# Altium schematic symbol library SYNCBOX_V3I1.SCHLIB: 130 symbols (part 2 of 4)
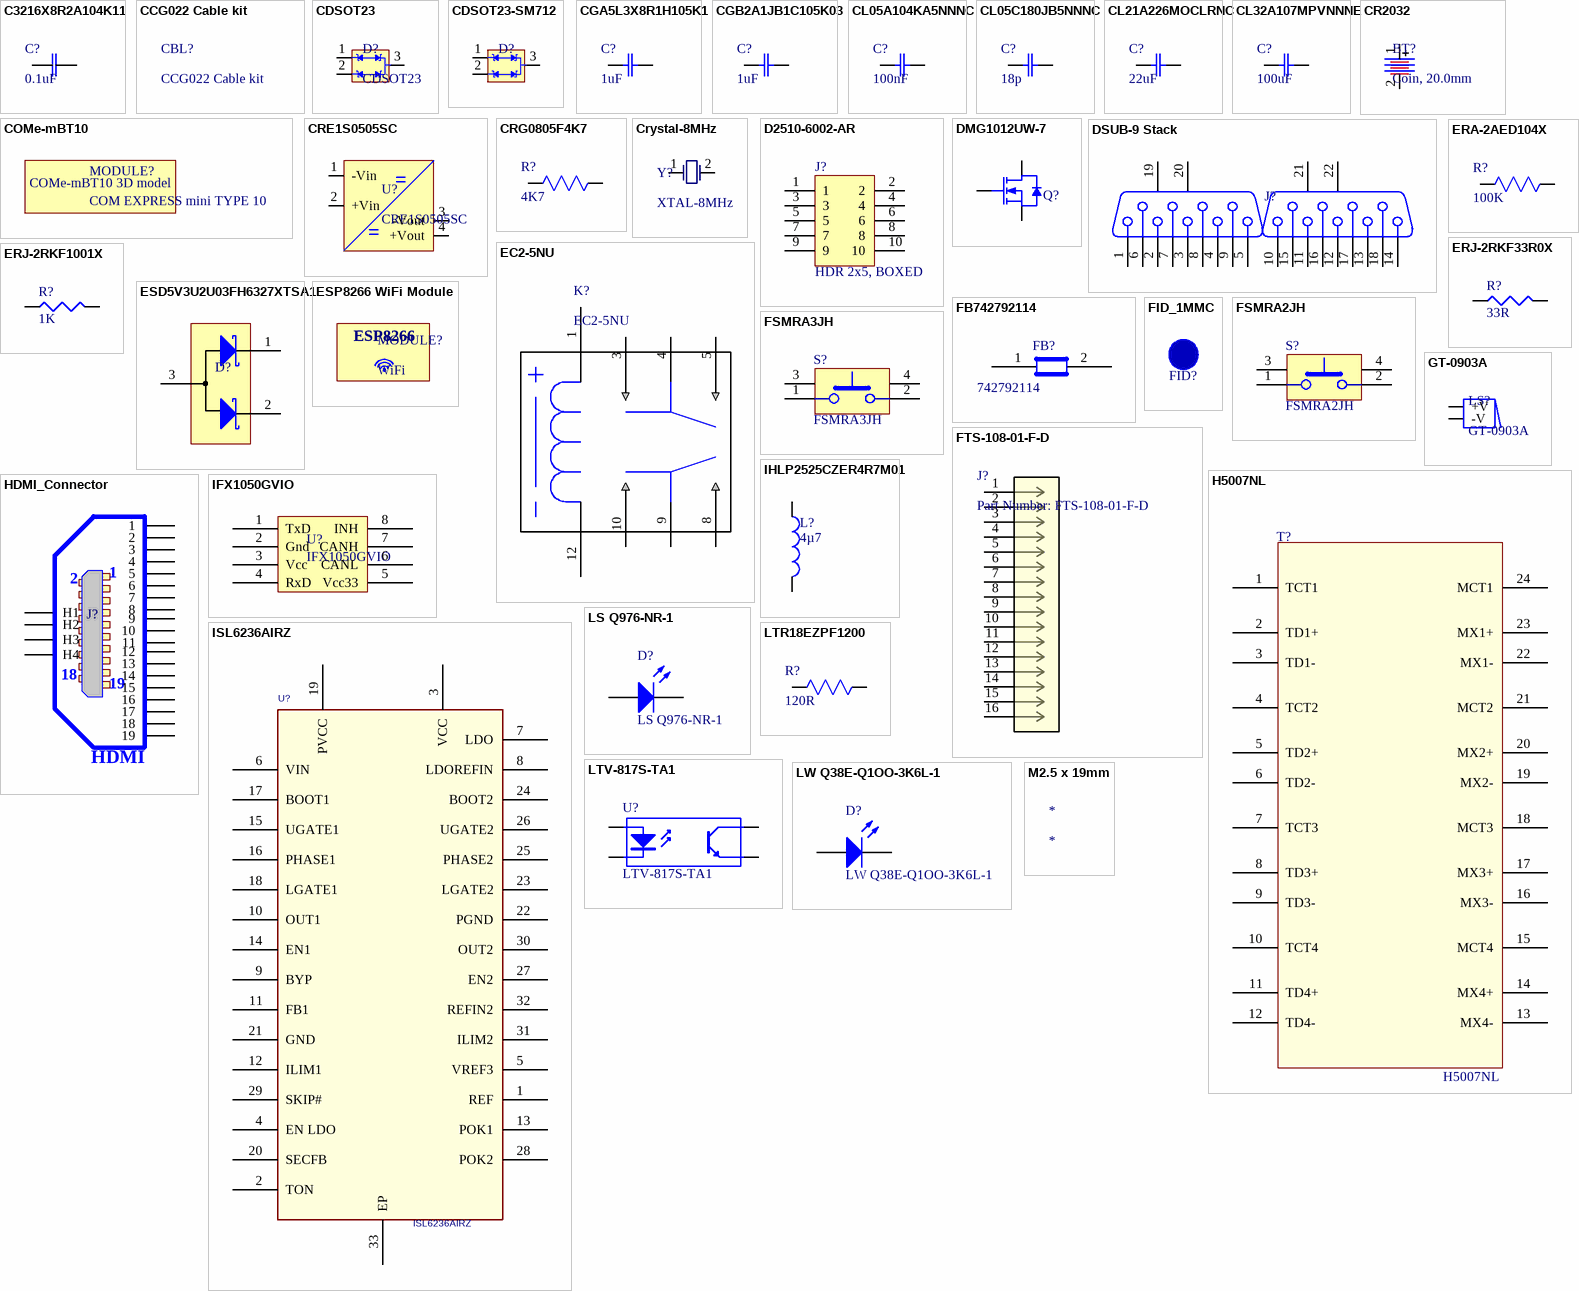
[diagram p4: symbols C3216X8R2A104K11 to M2.5 x 19mm]

## CDSOT23-SM712
designator D?, comment TVS  (value not drawn)
BOURNS - CDSOT23-SM712 - Transient Voltage Suppressor, TVS, CDSOT23 Series, Unidirectional, 12 V, SOT-23, 3, 13.3 V; Product Training Modules: ESD Protection Products; Catalog Drawings: CDSOT23-SM712 Schematic; Type: Zener; Bidirectional Channels: 2; Voltage - Reverse Standoff (Typ): 7V (Max), 12V (Max); Voltage - Breakdown (Min): 7.5V, 13.3V; Voltage - Clamping (Max) @ Ipp: 14V, 26V; Current - Peak Pulse (10/1000µs): 17A (8/20µs); Power - Peak Pulse: 400W; Power Line Protection: No; Capacitance @ Frequency: 75pF @ 1MHz; Kits: PN-DESIGNKIT-22-ND  - KIT ESD/EFT SURGE PROTECTION; For Use With: EVAL-CN0313-SDPZ-ND  - EVAL EMC RS-485 CERTIFIED; Related Products: ADM3485EARZ-REEL7TR-ND  - IC TXRX RS-485 HS 3.3V 8SOIC ADM3485EARZ-REEL7CT-ND  - IC TXRX RS-485 HS 3.3V 8SOIC ADM3485EARZ-REEL7DKR-ND  - IC TXRX RS-485 HS 3.3V 8SOIC ADM3485EARZ-ND  - IC TX/RX RS-485 HS 3.3V 8-SOIC ADM3485EAR-ND  - IC TX/RX RS-485 HS 3.3V 8-SOIC 296-38503-5-ND  - IC TXRX RS485 3.3V ESD 14SOIC 296-38501-5-ND  - IC RS485 TXRX 3.3 ESD 8SOIC 296-38522-5-ND  - IC TXRX RS485 3.3V 14SOIC 296-38502-5-ND  - IC TXRX RS485 3.3V ESD 14SOIC ADM3485EARZ-REELTR-ND  - IC TXRX RS-485 3.3V 8SOIC ADM3485EARZ-REELCT-ND  - IC TXRX RS-485 3.3V 8SOIC ADM3485EARZ-REELDKR-ND  - IC TXRX RS-485 3.3V 8SOIC 296-40517-2-ND  - IC TXRX RS485 3.3V 14SOIC 296-40517-1-ND  - IC TXRX RS485 3.3V 14SOIC 296-40517-6-ND  - IC TXRX RS485 3.3V 14SOIC 296-40519-2-ND  - IC RS485 TXRX 3.3 ESD 8SOIC 296-40519-1-ND  - IC RS485 TXRX 3.3 ESD 8SOIC 296-40519-6-ND  - IC RS485 TXRX 3.3 ESD 8SOIC 296-40524-2-ND  - IC TXRX RS485 3.3V ESD 8SOIC 296-40524-1-ND  - IC TXRX RS485 3.3V ESD 8SOIC 296-40524-6-ND  - IC TXRX RS485 3.3V ESD 8SOIC 296-40522-2-ND  - IC TXRX RS485 3.3V ESD 14SOIC 296-40522-1-ND  - IC TXRX RS485 3.3V ESD 14SOIC 296-40522-6-ND  - IC TXRX RS485 3.3V ESD 14SOIC 296-40529-2-ND  - IC RS485 TXRX 3.3 ESD 8SOIC 296-40529-1-ND  - IC RS485 TXRX 3.3 ESD 8SOIC 296-40529-6-ND  - IC RS485 TXRX 3.3 ESD 8SOIC 296-40527-2-ND  - IC TXRX RS485 FULL DUPLEX 14SOIC 296-40527-1-ND  - IC TXRX RS485 FULL DUPLEX 14SOIC 296-40527-6-ND  - IC TXRX RS485 FULL DUPLEX 14SOIC 296-40516-2-ND  - IC TXRX RS485 3.3V 10VSSOP 296-40516-1-ND  - IC TXRX RS485 3.3V 10VSSOP 296-40516-6-ND  - IC TXRX RS485 3.3V 10VSSOP 296-40518-2-ND  - IC RS485 TXRX 3.3 ESD 8VSSOP 296-40518-1-ND  - IC RS485 TXRX 3.3 ESD 8VSSOP 296-40518-6-ND  - IC RS485 TXRX 3.3 ESD 8VSSOP 296-40521-2-ND  - IC TXRX RS485 3.3V ESD 10VSSOP 296-40521-1-ND  - IC TXRX RS485 3.3V ESD 10VSSOP 296-40521-6-ND  - IC TXRX RS485 3.3V ESD 10VSSOP 296-40523-2-ND  - IC TXRX RS485 3.3V ESD 8VSSOP 296-40523-1-ND  - IC TXRX RS485 3.3V ESD 8VSSOP 296-40523-6-ND  - IC TXRX RS485 3.3V ESD 8VSSOP 296-40528-2-ND  - IC RS485 TXRX 3.3 ESD 8VSSOP 296-40528-1-ND  - IC RS485 TXRX 3.3 ESD 8VSSOP 296-40528-6-ND  - IC RS485 TXRX 3.3 ESD 8VSSOP 296-40526-2-ND  - IC TXRX RS485 FULL DUPLEX 10VSSO 296-40526-1-ND  - IC TXRX RS485 FULL DUPLEX 10VSSO 296-40526-6-ND  - IC TXRX RS485 FULL DUPLEX 10VSSO SN65HVD74DGK-ND  - IC TXRX RS485 3.3V ESD 8VSSOP; Other Names: CDSOT23-SM712CT; Manufacturer 1: Bourns; Manufacturer Part Number 1: CDSOT23-SM712; Stock 1: 30000; Standard Package: 1; Family: TVS - Diodes; Series: -; Packaging: Cut Tape (CT); Unidirectional Channels: -; Applications: General Purpose; Operating Temperature: -55°C ~ 150°C (TJ); Mounting Type: Surface Mount; Package / Case: TO-236-3, SC-59, SOT-23-3; Supplier Device Package: SOT-23-3; Online Catalog: CDSOT23 Series; ComponentLink1URL: http://www.farnell.com/datasheets/2645121.pdf?src-supplier=Farnell; ComponentLink1Description: http://www.farnell.com/datasheets/2645121.pdf?src-supplier=Farnell; ComponentLink2URL: http://www.bourns.com/docs/Product-Datasheets/CDSOT23-SM712.pdf?src-supplier=Mouser; ComponentLink2Description: http://www.bourns.com/docs/Product-Datasheets/CDSOT23-SM712.pdf?src-supplier=Mouser; ComponentLink3URL: http://www.bourns.com/docs/Product-Datasheets/CDSOT23-SM712.pdf?src-supplier=Avnet; ComponentLink3Description: http://www.bourns.com/docs/Product-Datasheets/CDSOT23-SM712.pdf?src-supplier=Avnet; ComponentLink4URL: http://www.bourns.com/docs/Product-Datasheets/CDSOT23-SM712.pdf?src-supplier=Verical; ComponentLink4Description: http://www.bourns.com/docs/Product-Datasheets/CDSOT23-SM712.pdf?src-supplier=Verical; ComponentLink5URL: https://www.bourns.com/docs/technical-documents/technical-library/circuit-protection/design-notes/bourns_rs485_evalboard4_design_note.pdf?src-supplier=Digi-Key; ComponentLink5Description: https://www.bourns.com/docs/technical-documents/technical-library/circuit-protection/design-notes/bourns_rs485_evalboard4_design_note.pdf?src-supplier=Digi-Key; ComponentLink6URL: http://www.farnell.com/datasheets/2645121.pdf?src-supplier=Element14; ComponentLink6Description: http://www.farnell.com/datasheets/2645121.pdf?src-supplier=Element14; ComponentLink7URL: http://www.bourns.com/docs/Product-Datasheets/CDSOT23-SM712.pdf?src-supplier=Avnet+Europe; ComponentLink7Description: http://www.bourns.com/docs/Product-Datasheets/CDSOT23-SM712.pdf?src-supplier=Avnet+Europe; Supplier 1: RSComponents; Supplier Part Number 1: 1653019; Description 1: BOURNS - CDSOT23-SM712 - Transient Voltage Suppressor, TVS, CDSOT23 Series, Unidirectional, 12 V, SOT-23, 3, 13.3 V; Category: Circuit Protection; .Checked SCH: *; .Checked PCB: *
footprint SOT-23-3 (SOT-23; 3 Leads; Body 3.0 x 2.6 mm, inc. leads (LxW max))
pins: 1, 2, 3

## CGA5L3X8R1H105K1
designator C?, comment 1uF
CAP CER 1UF 50V X8R 1206; Manufacturer_Part_Number: CGA5L3X8R1H105K160AB; Manufacturer 1: TDK Corporation; Vendor: TDK; Built_By: EMA_UL_Team; Type: DEV; C: Copyright (C) 2015 Accelerated Designs. All rights reserved; Tolerance: ±10%; RefDes: RefDes; Value: Value; Manufacturer Part Number 1: CGA5L3X8R1H105K160AB; RoHS: RoHS Compliant; Stock 1: 3285; Pricing 1: 1=0.85, 10=0.628, 100=0.4306, 500=0.34086, 1000=0.28704 (USD); Packaging: Cut Tape (CT); Part Status: Active; Voltage - Rated: 50V; Temperature Coefficient: X8R; Operating Temperature: -55°C ~ 150°C; Features: High Temperature; Ratings: AEC-Q200; Applications: Automotive; Failure Rate: -; Mounting Type: Surface Mount, MLCC; Package / Case: 1206 (3216 Metric); Size / Dimension: 0.126" L x 0.063" W (3.20mm x 1.60mm); Height - Seated (Max): -; Thickness (Max): 0.071" (1.80mm); Lead Spacing: -; Lead Style: -; ComponentLink1URL: https://product.tdk.com/info/en/catalog/datasheets/mlcc_automotive_hightemp_en.pdf; ComponentLink1Description: https://product.tdk.com/info/en/catalog/datasheets/mlcc_automotive_hightemp_en.pdf; Supplier 1: Digi-Key; Supplier Part Number 1: 445-13000-1-ND; Description 1: CAP CER 1UF 50V X8R 1206; Category: Capacitors
footprint CAP_3216
pins: 1, 2

## CGB2A1JB1C105K03
designator C?, comment 1uF
CAP CER 1UF 16V JB 0402; Manufacturer_Part_Number: CGB2A1JB1C105K033BC; Manufacturer 1: TDK Corporation; Vendor: TDK; Built_By: EMA_UL_Team; Type: DEV; C: Copyright (C) 2015 Accelerated Designs. All rights reserved; Tolerance: ±10%; Notification: Current market demand for these product types have resulted in fluctuating and extending lead times. Lead times may differ.; RefDes: RefDes; Value: Value; Manufacturer Part Number 1: CGB2A1JB1C105K033BC; RoHS: RoHS Compliant; Stock 1: 8974; Pricing 1: 1=0.22, 10=0.151, 100=0.0765, 500=0.05232, 1000=0.04629, 2500=0.04428, 5000=0.04025 (USD); Packaging: Cut Tape (CT); Part Status: Active; Voltage - Rated: 16V; Temperature Coefficient: JB; Operating Temperature: -25°C ~ 85°C; Features: Low Profile; Ratings: -; Applications: General Purpose; Failure Rate: -; Mounting Type: Surface Mount, MLCC; Package / Case: 0402 (1005 Metric); Size / Dimension: 0.039" L x 0.020" W (1.00mm x 0.50mm); Height - Seated (Max): -; Thickness (Max): 0.013" (0.33mm); Lead Spacing: -; Lead Style: -; ComponentLink1URL: https://product.tdk.com/info/en/catalog/datasheets/mlcc_commercial_lowprofile_en.pdf; ComponentLink1Description: https://product.tdk.com/info/en/catalog/datasheets/mlcc_commercial_lowprofile_en.pdf; Supplier 1: Digi-Key; Supplier Part Number 1: 445-12011-1-ND; Description 1: CAP CER 1UF 16V JB 0402; Category: Capacitors
footprint C0402
footprint C0402
pins: 1, 2

## CL05A104KA5NNNC
designator C?, comment 100nF
CAP CER 0.1UF 50V X8R 0603; Manufacturer 1: Samsung Electro-Mechanics; Manufacturer Part Number 1: CL05A104KA5NNNC; Tolerance: ±10%; Voltage - Rated: 25V; Temperature Coefficient: X5R; Notification: Current market demand for these product types have resulted in fluctuating and extending lead times. Lead times may differ.; Description 1: CAP CER 0.1UF 25V X5R 0402; RoHS: RoHS Compliant; Stock 1: 100000; Pricing 1: 1=0.1, 10=0.04, 100=0.0176, 500=0.0126, 1000=0.0099, 2500=0.009, 5000=0.00828 (USD); Packaging: Digi-Reel®; Part Status: Active; Operating Temperature: -55°C ~ 85°C; Features: -; Ratings: -; Applications: General Purpose; Mounting Type: Surface Mount, MLCC; Package / Case: 0402 (1005 Metric); Size / Dimension: 0.039" L x 0.020" W (1.00mm x 0.50mm); Height - Seated (Max): -; Thickness (Max): 0.022" (0.55mm); Lead Spacing: -; Lead Style: -; ComponentLink1URL: http://www.samsungsem.com/kr/support/product-search/mlcc/CL05A104KA5NNNC.jsp; ComponentLink1Description: http://www.samsungsem.com/kr/support/product-search/mlcc/CL05A104KA5NNNC.jsp; Supplier 1: Digi-Key; Supplier Part Number 1: 1276-1043-6-ND; Category: Capacitors
footprint C0402
pins: 1, 2

## CL05C180JB5NNNC
designator C?, comment 18p
CAP CER 18PF 50V C0G/NP0 0402; Manufacturer 1: Samsung Electro-Mechanics; Manufacturer Part Number 1: CL05C180JB5NNNC; Tolerance: ±5%; Temperature Coefficient: C0G, NP0; Notification: Current market demand for these product types have resulted in fluctuating and extending lead times. Lead times may differ.; RoHS: RoHS Compliant; Stock 1: 89300; Pricing 1: 1=0.1, 10=0.034, 100=0.0154, 500=0.01114, 1000=0.00888, 2500=0.00814, 5000=0.00753 (USD); Packaging: Cut Tape (CT); Part Status: Active; Voltage - Rated: 50V; Operating Temperature: -55°C ~ 125°C; Features: -; Ratings: -; Applications: General Purpose; Mounting Type: Surface Mount, MLCC; Package / Case: 0402 (1005 Metric); Size / Dimension: 0.039" L x 0.020" W (1.00mm x 0.50mm); Height - Seated (Max): -; Thickness (Max): 0.022" (0.55mm); Lead Spacing: -; Lead Style: -; ComponentLink1URL: http://www.samsungsem.com/kr/support/product-search/mlcc/CL05C180JB5NNNC.jsp; ComponentLink1Description: http://www.samsungsem.com/kr/support/product-search/mlcc/CL05C180JB5NNNC.jsp; Supplier 1: Digi-Key; Supplier Part Number 1: 1276-1140-1-ND; Description 1: CAP CER 18PF 50V C0G/NP0 0402; Category: Capacitors
footprint C0402
footprint C0402
pins: 1, 2

## CL21A226MOCLRNC
designator C?, comment 22uF
CAP CER 22UF 16V X5R 0805; Manufacturer 1: Samsung Electro-Mechanics; Manufacturer Part Number 1: CL21A226MOCLRNC; Tolerance: ±20%; Notification: Current market demand for these product types have resulted in fluctuating and extending lead times. Lead times may differ.; RoHS: RoHS Compliant; Stock 1: 40000; Pricing 1: 1=0.34, 10=0.233, 100=0.132, 500=0.09318, 1000=0.08153 (USD); Packaging: Cut Tape (CT); Part Status: Active; Voltage - Rated: 16V; Temperature Coefficient: X5R; Operating Temperature: -55°C ~ 85°C; Features: Low Profile; Ratings: -; Applications: General Purpose; Mounting Type: Surface Mount, MLCC; Package / Case: 0805 (2012 Metric); Size / Dimension: 0.079" L x 0.049" W (2.00mm x 1.25mm); Height - Seated (Max): -; Thickness (Max): 0.037" (0.95mm); Lead Spacing: -; Lead Style: -; ComponentLink1URL: http://www.samsungsem.com/kr/support/product-search/mlcc/CL21A226MOCLRNC.jsp; ComponentLink1Description: http://www.samsungsem.com/kr/support/product-search/mlcc/CL21A226MOCLRNC.jsp; Supplier 1: Digi-Key; Supplier Part Number 1: 1276-6780-1-ND; Description 1: CAP CER 22UF 16V X5R 0805; Category: Capacitors
footprint C0805
pins: 1, 2

## CL32A107MPVNNNE
designator C?, comment 100uF
CAP CER 100UF 10V X5R 1210; Manufacturer_Part_Number: C1210C107M8PACTU; Manufacturer 1: Samsung Electro-Mechanics; Manufacturer Part Number 1: CL32A107MPVNNNE; Vendor: Kemet; Built_By: EMA_UL_Team; Type: DEV; C: Copyright (C) 2015 Accelerated Designs. All rights reserved; Tolerance: ±20%; Notification: Current market demand for these product types have resulted in fluctuating and extending lead times. Lead times may differ.; RefDes: RefDes; Value: 100uF; RoHS: RoHS Compliant; Stock 1: 10000; Pricing 1: 1=1.23, 10=0.97, 100=0.7277, 500=0.54984 (USD); Packaging: Cut Tape (CT); Part Status: Active; Voltage - Rated: 10V; Temperature Coefficient: X5R; Operating Temperature: -55°C ~ 85°C; Features: -; Ratings: -; Applications: General Purpose; Mounting Type: Surface Mount, MLCC; Package / Case: 1210 (3225 Metric); Size / Dimension: 0.126" L x 0.098" W (3.20mm x 2.50mm); Height - Seated (Max): -; Thickness (Max): 0.110" (2.80mm); Lead Spacing: -; Lead Style: -; ComponentLink1URL: http://www.samsungsem.com/kr/support/product-search/mlcc/CL32A107MPVNNNE.jsp; ComponentLink1Description: http://www.samsungsem.com/kr/support/product-search/mlcc/CL32A107MPVNNNE.jsp; Supplier 1: Digi-Key; Supplier Part Number 1: 1276-3364-1-ND; Description 1: CAP CER 100UF 10V X5R 1210; Category: Capacitors
footprint C1210C
footprint C1210C-L
footprint C1210C-M
pins: 1, 2

## COMe-mBT10
designator MODULE?, comment COM EXPRESS mini TYPE 10
text: COMe-mBT10 3D model

## CR2032
designator BT?, comment Coin, 20.0mm
BATTERY HOLDER COIN 20MM PC PIN; Manufacturer Part Number: BS-7; Product Training Modules: Battery Holders for Wireless Applications; Featured Product: Top and Side Loading Coin Cell Holders Ultra-Low CR2016 Coin Cell Holder Covered 8-AA Battery Pack Cylindrical Battery Contacts; Battery Type, Function: Coin Cell, Holder; Style: Holder (Open); Number of Cells: 1; Battery Series: 2032; Online Catalog: Battery Holders, Clips, Contacts; For Use With: P188-ND / - BATTERY LITHIUM 3V COIN 20MM / P138-ND / - BATTERY LITHIUM 3V COIN 20MM / P189-ND / - BATTERY LITHIUM 3V COIN 20MM / N138-ND / - BATTERY LITHIUM 3V COIN 20MM / N188-ND / - BATTERY LITHIUM 3V COIN 20MM / P186-ND / - BATTERY LITHIUM 3V COIN 20MM / SY189-ND / - BATTERY LITHIUM 3V COIN 20MM / SY138-ND / - BATTERY LITHIUM 3V COIN 20MM / SY188-ND / - BATTERY LITHIUM 3V COIN 20MM / N189-ND / - BATTERY LITHIUM 3V COIN 20MM / P037-ND / - BATTERY LITHIUM 3V COIN 20MM / N037-ND / - BATTERY LITHIUM 3V COIN 20MM / ECR2032BP-ND / - BATTERY LITH 3V COIN 20MM; Other Names: BS7; Supplier 1: Electro Sonic; Supplier Part Number 1: BS7; Manufacturer 2: Memory Protection Devices; Manufacturer Part Number 2: BS-7; Stock 2: 0; RoHS Information: Cert of Compliance; Standard Package: 100; Family: Battery Holders, Clips, Contacts; Battery Cell Size: Coin, 20.0mm; Mounting Type: PCB, Through Hole; Termination Style: PC Pin; Height Above Board: 0.354" (9.00mm); Operating Temperature: -55°C ~ 105°C; ComponentLink1URL: http://www.memoryprotectiondevices.com/datasheets/BS-7-datasheet.pdf?src-supplier=Digi-Key; ComponentLink1Description: http://www.memoryprotectiondevices.com/datasheets/BS-7-datasheet.pdf?src-supplier=Digi-Key; Supplier 2: Perfect Parts; Supplier Part Number 2: BS-7; Description 2: BATTERY HOLDER COIN 20MM PC PIN; Category: Battery Products
footprint BS-7
pins: 1, 2
1 alternate drawing of the same symbol

## CRE1S0505SC
designator U?
DC/DC TH 1W 5-5V SIP SINGLE; Manufacturer 1: Murata Power Solutions Inc.; Voltage - Input (Min): 4.5V; Voltage - Input (Max): 5.5V; Voltage - Output 1: 5V; Current - Output (Max): 200mA; Efficiency: 70%; Manufacturer Part Number 1: CRE1S0505SC; RoHS: RoHS Compliant; Stock 1: 676; Pricing 1: 1=2.69, 5=2.68, 10=2.66, 25=2.63, 50=2.56, 100=2.43, 250=2.28, 500=2.13002, 1000=2.1147 (USD); Packaging: Tube; Part Status: Active; Type: Isolated Module; Voltage - Output 2: -; Voltage - Output 3: -; Applications: ITE (Commercial); Features: -; Operating Temperature: -40°C ~ 85°C; Mounting Type: Through Hole; Package / Case: 4-SIP Module; Size / Dimension: 0.45" L x 0.24" W x 0.30" H (11.5mm x 6.1mm x 7.5mm); Supplier Device Package: -; ComponentLink1URL: https://power.murata.com/data/power/ncl/kdc_cre1.pdf; ComponentLink1Description: https://power.murata.com/data/power/ncl/kdc_cre1.pdf; Supplier 1: Digi-Key; Supplier Part Number 1: 811-3196-ND; Description 1: DC/DC TH 1W 5-5V SIP SINGLE; Category: Power Supplies - Board Mount
footprint CRE1S0505SC
pins: 1 -Vin, 2 +Vin, 3 -Vout, 4 +Vout

## CRG0805F4K7
designator R?, comment 4K7
RES SMD 4.7K OHM 1% 1/8W 0805; Manufacturer_Part_Number: CRG0805F4K7; Manufacturer 1: TE Connectivity Passive Product; Vendor: TE Connectivity; Built_By: EMA_UL_Team; C: Copyright (C) 2015 Accelerated Designs. All rights reserved; Power (Watts): 0.125W, 1/8W; Temperature Coefficient: ±100ppm/°C; RefDes: RefDes; Type: DEV; Value: Value; Manufacturer Part Number 1: CRG0805F4K7; RoHS: RoHS Compliant; Stock 1: 28633; Pricing 1: 1=0.1, 10=0.035, 100=0.0143, 1000=0.00641, 2500=0.00557 (USD); Packaging: Cut Tape (CT); Part Status: Active; Tolerance: ±1%; Composition: Thick Film; Features: -; Operating Temperature: -55°C ~ 125°C; Package / Case: 0805 (2012 Metric); Supplier Device Package: 0805; Size / Dimension: 0.079" L x 0.049" W (2.00mm x 1.25mm); Height - Seated (Max): 0.026" (0.65mm); Failure Rate: -; ComponentLink1URL: http://www.te.com/commerce/DocumentDelivery/DDEController?Action=srchrtrv&DocNm=1773204&DocType=DS&DocLang=English; ComponentLink1Description: http://www.te.com/commerce/DocumentDelivery/DDEController?Action=srchrtrv&DocNm=1773204&DocType=DS&DocLang=English; Supplier 1: Digi-Key; Supplier Part Number 1: A106065CT-ND; Description 1: RES SMD 4.7K OHM 1% 1/8W 0805; Category: Resistors
footprint RES0805_CRG_TYCO
footprint RES0805_CRG_TY01
footprint RES0805_CRG_TY00
pins: 1, 2

## Crystal-8MHz
designator Y?, comment XTAL-8MHz
8MHz ±30ppm Crystal 18pF 80 Ohm -20°C ~ 70°C  Surface Mount HC49/US; Brand: ABRACON; Case Height: 4.2 mm; Case Length: 11.4 mm; Case Width: 4.7 mm; ESR: 80 Ohms; Frequency Stability: 50 PPM; Manufacturer 2: ABRACON; Manufacturer Part Number 2: ABLS-8.000MHZ-B4-T; Stock 2: 7825; Dimensions: 4.7 mm W x 11.4 mm L x 4.2 mm H; Frequency: 8 MHz; Load Capacitance: 18 pF; Package / Case: HC-49/US; Operating Temperature Range: - 20 C to + 70 C; Mounting Style: SMD/SMT; Factory Pack Quantity: 1000; Product Category: Crystals; RoHS: Details; Tolerance: 30 PPM; Termination Style: SMD/SMT; Packaging: Reel; Series: ABLS; Type: Low Profile Microprocessor Crystal; ComponentLink1URL: https://abracon.com/Support/PackageDrawing/Resonators/ABLS-2D.pdf; ComponentLink1Description: https://abracon.com/Support/PackageDrawing/Resonators/ABLS-2D.pdf; ComponentLink2URL: http://www.abracon.com/Support/PackageDrawing/Resonators/ABLS-2D.pdf; ComponentLink2Description: http://www.abracon.com/Support/PackageDrawing/Resonators/ABLS-2D.pdf; Supplier 1: Digi-Key; Supplier Part Number 1: 535-10212-1-ND; Supplier 2: RSComponents; Supplier Part Number 2: 1710238; Description 2: 8MHz ±30ppm Crystal 18pF 80 Ohm -20°C ~ 70°C  Surface Mount HC49/US
footprint HC49/US
pins: 1, 2

## D2510-6002-AR
designator J?, comment HDR 2x5, BOXED
CONN HEADER 10POS VERT 10GOLD; Manufacturer: 3M; Manufacturer Part Number: D2510-6002-AR; Connector Type: Header, Shrouded; Number of Positions: 10; Number of Positions Loaded: All; Pitch: 0.100" (2.54mm); .Creator: MM; Supplier 1: Digi-Key; RoHS: RoHS Compliant; Category: Connectors, Interconnects; Stock 1: 1080; Pricing 1: 1=1.57, 10=1.421, 50=1.276, 100=1.218, 250=1.102, 500=1.015, 1000=0.87, 2500=0.812, 5000=0.7714 (USD); Packaging: Bulk; Contact Type: Male Pin; Number of Rows: 2; Row Spacing: 0.100" (2.54mm); Contact Mating Length: 0.243" (6.17mm); Mounting Type: Through Hole; Termination: Solder; Fastening Type: -; Features: -; Contact Finish: Gold; Contact Finish Thickness: 10µin (0.25µm); Color: Black; ComponentLink1URL: http://multimedia.3m.com/mws/mediawebserver?66666UuZjcFSLXTtm8T_oxMcEVuQEcuZgVs6EVs6E666666--; ComponentLink1Description: http://multimedia.3m.com/mws/mediawebserver?66666UuZjcFSLXTtm8T_oxMcEVuQEcuZgVs6EVs6E666666--; Supplier Part Number 1: MHC10E-ND; .Checked PCB: MM; .Checked SCH: MM
footprint HDR_2X5_2.54MM_BOXED
pins: 1, 2, 3, 4, 5, 6, 7, 8, 9, 10

## DMG1012UW-7
designator Q?  (value not drawn)
MOSFET N-CH 20V 1A SOT323; Manufacturer 1: Diodes Incorporated; Note: Pin 2 is electrically connected to pin 4.; FET Type: N-Channel; Current - Continuous Drain (Id) @ 25°C: 1A (Ta); Drive Voltage (Max Rds On,  Min Rds On): 1.8V, 4.5V; Rds On (Max) @ Id, Vgs: 450 mOhm @ 600mA, 4.5V; Vgs(th) (Max) @ Id: 1V @ 250µA; Vgs (Max): ±6V; Power Dissipation (Max): 290mW (Ta); Published: 8-Jun-2000; LatestRevisionDate: 17-Jul-2002; LatestRevisionNote: Re-released for DXP Platform.; DatasheetVersion: PD-9.814; PackageReference: TO-220AB; Publisher: Altium Limited; Code_JEDEC: TO-220-AB; ComponentLink1Description: Manufacturer Link; ComponentLink1URL: http://www.irf.com/; Digikey P/N: DMG1012UW-7DITR-ND; Supplier 1: Digi-Key; Supplier Part Number 1: DMG1012UW-7DICT-ND; Manufacturer Part Number 1: DMG1012UW-7; RoHS: RoHS Compliant; Description 1: MOSFET N-CH 20V 1A SOT323; Category: Discrete Semiconductor Products; Stock 1: 211076; Pricing 1: 1=0.41, 10=0.37, 100=0.2074, 500=0.1111, 1000=0.07554 (USD); Packaging: Cut Tape (CT); Part Status: Active; Technology: MOSFET (Metal Oxide); FET Feature: -; Operating Temperature: -55°C ~ 150°C (TJ); Mounting Type: Surface Mount; Supplier Device Package: SOT-323; Package / Case: SC-70, SOT-323; ComponentLink2URL: https://www.diodes.com/assets/Datasheets/ds31859.pdf; ComponentLink2Description: https://www.diodes.com/assets/Datasheets/ds31859.pdf
footprint SOT-23-3 (SOT-23; 3 Leads; Body 3.0 x 2.6 mm, inc. leads (LxW max))
footprint SC70-LB3_L (SOT323, 3-Leads, Body 2.0x1.3mm, Pitch 0.65mm, Lead Span 2.1mm, IPC High Density)
footprint SC70-LB3_M (SOT323, 3-Leads, Body 2.0x1.3mm, Pitch 0.65mm, Lead Span 2.1mm, IPC Low Density)
footprint SC70_SOT323
pins: 1 G, 2 S, 3 D

## DSUB-9 Stack
designator J?, comment DSUB-9 Stacked  (value not drawn)
CONN D-SUB PLUG 9POS R/A SLDR; Manufacturer 1: NorComp Inc.; Manufacturer Part Number 1: 189-009-613R491; PackageDocument: O; Positions: 9; Gender: Receptacle; Connector Style: D-Sub - Stacked; Connector Type: Plug, Male Pins; Number of Positions: 9, 9; Flange Feature: Housing/Shell (4-40); Material Flammability Rating: UL94 V-0; Current Rating: 5A; Contact Form: Stamped; Backset Spacing: 0.318" (8.08mm); Published: 15-Jun-2001; LatestRevisionDate: 17-Jul-2002; LatestRevisionNote: Re-released for DXP Platform.; DatasheetDocument: 1-Sep-1999; PackageReference: 788750; Publisher: Altium Limited; Orientation: Right Angle; RoHS: RoHS Compliant; Stock 1: 1768; Pricing 1: 1=6.96, 10=6.67, 25=6.09, 50=5.8, 100=5.51, 250=4.93, 500=4.64, 1000=4.06, 2500=3.857 (USD); Packaging: Tray; Part Status: Active; Number of Rows: 2, 2; Shell Size, Connector Layout: 1 (DE, E); 1 (DE, E); Contact Type: Signal; Mounting Type: Panel Mount, Through Hole, Right Angle; Termination: Solder; Features: Board Lock, Grounding Indents, Shielded; Shell Material, Finish: Steel, Nickel Plated; Contact Finish: Gold; Contact Finish Thickness: Flash; Ingress Protection: -; Operating Temperature: -55°C ~ 105°C; Voltage Rating: -; Color: Black; Housing Material: Polyamide (PA9T), Nylon 9T; Wire Gauge: -; Contact Material: Brass; ComponentLink1URL: https://www.norcomp.net/rohspdfs/Connectors/18Y/189/613/189-YYY-613R491.pdf; ComponentLink1Description: https://www.norcomp.net/rohspdfs/Connectors/18Y/189/613/189-YYY-613R491.pdf; Supplier 1: Digi-Key; Supplier Part Number 1: 189-409MME-ND; Description 1: CONN D-SUB PLUG 9POS R/A SLDR; Category: Connectors, Interconnects
footprint DSUB9-Double (Double Stacked D-Sub Connector 2x9)
pins: 1, 2, 3, 4, 5, 6, 7, 8, 9, 10, 11, 12, 13, 14, 15, 16, 17, 18, 19, 20, 21, 22

## EC2-5NU
designator K?
RELAY GEN PURPOSE DPDT 2A 5V; Vendor: KEMET; Built_By: EMA_UL_Team; C: Copyright (C) 2015 Accelerated Designs. All rights reserved; Relay Type: General Purpose; Coil Type: Non Latching; Coil Voltage: 5VDC; Contact Form: DPDT (2 Form C); Switching Voltage: 250VAC, 220VDC - Max; Turn On Voltage (Max): 3.75 VDC; Turn Off Voltage (Min): 0.5 VDC; Coil Power: 140 mW; Manufacturer_Part_Number: EC2-5NU; RefDes: RefDes; Type: DEV; Value: Value; Manufacturer 1: KEMET; Manufacturer Part Number 1: EC2-5NU; RoHS: RoHS Compliant; Stock 1: 14823; Pricing 1: 1=1.63, 10=1.53, 25=1.36, 50=1.292, 100=1.224, 250=1.088, 500=1.02, 1000=0.952, 5000=0.918 (USD); Packaging: Tube; Part Status: Active; Features: -; Mounting Type: Through Hole; Termination Style: PC Pin; Operating Temperature: -40°C ~ 85°C; Contact Material: Silver Alloy, Gold Alloy; ComponentLink1URL: https://api.kemet.com/component-edge/download/datasheet/EC2-5NU.pdf; ComponentLink1Description: https://api.kemet.com/component-edge/download/datasheet/EC2-5NU.pdf; Supplier 1: Digi-Key; Supplier Part Number 1: 399-11052-5-ND; Description 1: RELAY GEN PURPOSE DPDT 2A 5V; Category: Relays
footprint EC2NU
pins: 1, 3, 4, 5, 8, 9, 10, 12

## ERA-2AED104X
designator R?, comment 100K
RES SMD 100K OHM 0.5% 1/16W 0402; Manufacturer_Part_Number: ERA-2AED104X; Manufacturer 1: Panasonic Electronic Components; Vendor: Panasonic; Built_By: EMA_UL_Team; C: Copyright (C) 2015 Accelerated Designs. All rights reserved; Power (Watts): 0.063W, 1/16W; Temperature Coefficient: ±25ppm/°C; RefDes: RefDes; Type: DEV; Value: Value; Manufacturer Part Number 1: ERA-2AED104X; RoHS: RoHS Compliant; Stock 1: 53498; Pricing 1: 1=0.22, 10=0.188, 100=0.0735, 1000=0.03077, 2500=0.0282, 5000=0.02564 (USD); Packaging: Digi-Reel®; Part Status: Active; Tolerance: ±0.5%; Composition: Thin Film; Features: Automotive AEC-Q200; Operating Temperature: -55°C ~ 155°C; Package / Case: 0402 (1005 Metric); Supplier Device Package: 0402; Size / Dimension: 0.039" L x 0.020" W (1.00mm x 0.50mm); Height - Seated (Max): 0.016" (0.40mm); Failure Rate: -; ComponentLink1URL: https://industrial.panasonic.com/cdbs/www-data/pdf/RDM0000/AOA0000C307.pdf; ComponentLink1Description: https://industrial.panasonic.com/cdbs/www-data/pdf/RDM0000/AOA0000C307.pdf; Supplier 1: Digi-Key; Supplier Part Number 1: P100KDEDKR-ND; Description 1: RES SMD 100K OHM 0.5% 1/16W 0402; Category: Resistors
footprint RC0402N
footprint RC0402N-L
footprint RC0402N-M
pins: 1, 2

## ERJ-2RKF33R0X
designator R?, comment 33R
RES SMD 33 OHM 1% 1/10W 0402; Manufacturer 1: Panasonic Electronic Components; Manufacturer Part Number 1: ERJ-2RKF33R0X; .Checked PCB: RF; Power (Watts): 0.1W, 1/10W; Temperature Coefficient: ±100ppm/°C; .Checked SCH: RF; RoHS: RoHS Compliant; Stock 1: 459707; Pricing 1: 1=0.1, 10=0.056, 100=0.0227, 1000=0.01021, 2500=0.00886, 5000=0.00732 (USD); Packaging: Digi-Reel®; Part Status: Active; Tolerance: ±1%; Composition: Thick Film; Features: Automotive AEC-Q200; Operating Temperature: -55°C ~ 155°C; Package / Case: 0402 (1005 Metric); Supplier Device Package: 0402; Size / Dimension: 0.039" L x 0.020" W (1.00mm x 0.50mm); Height - Seated (Max): 0.016" (0.40mm); Failure Rate: -; ComponentLink1URL: https://industrial.panasonic.com/cdbs/www-data/pdf/RDA0000/AOA0000C304.pdf; ComponentLink1Description: https://industrial.panasonic.com/cdbs/www-data/pdf/RDA0000/AOA0000C304.pdf; Supplier 1: Digi-Key; Supplier Part Number 1: P33.0LDKR-ND; Description 1: RES SMD 33 OHM 1% 1/10W 0402; Category: Resistors
footprint R0402
pins: 1, 2

## ERJ-2RKF1001X
designator R?, comment 1K
RES SMD 1K OHM 1% 1/10W 0402; Manufacturer 1: Panasonic Electronic Components; Manufacturer Part Number 1: ERJ-2RKF1001X; .Checked PCB: used; Power (Watts): 0.1W, 1/10W; Temperature Coefficient: ±100ppm/°C; .Checked SCH: used; RoHS: RoHS Compliant; Stock 1: 18630560; Pricing 1: 1=0.1, 10=0.056, 100=0.0227, 1000=0.01021, 2500=0.00886, 5000=0.00732 (USD); Packaging: Digi-Reel®; Part Status: Active; Tolerance: ±1%; Composition: Thick Film; Features: Automotive AEC-Q200; Operating Temperature: -55°C ~ 155°C; Package / Case: 0402 (1005 Metric); Supplier Device Package: 0402; Size / Dimension: 0.039" L x 0.020" W (1.00mm x 0.50mm); Height - Seated (Max): 0.016" (0.40mm); Failure Rate: -; ComponentLink1URL: https://industrial.panasonic.com/cdbs/www-data/pdf/RDA0000/AOA0000C304.pdf; ComponentLink1Description: https://industrial.panasonic.com/cdbs/www-data/pdf/RDA0000/AOA0000C304.pdf; Supplier 1: Digi-Key; Supplier Part Number 1: P1.00KLDKR-ND; Description 1: RES SMD 1K OHM 1% 1/10W 0402; Category: Resistors
footprint R0402
pins: 1, 2

## ESD5V3U2U03FH6327XTSA1
designator D?
TVS DIODE 5.3V 15V TSFP-3; Manufacturer 1: Infineon Technologies; Manufacturer Part Number 1: ESD5V3U2U03FH6327XTSA1; Type: Zener; Voltage - Reverse Standoff (Typ): 5.3V (Max); Voltage - Breakdown (Min): 6V; Current - Peak Pulse (10/1000µs): 3A (8/20µs); Power Line Protection: No; Capacitance @ Frequency: 0.4pF @ 1MHz; .Checked PCB: CHK; RoHS: RoHS Compliant; Stock 1: 21994; Pricing 1: 1=0.38, 10=0.311, 100=0.2118, 500=0.15886, 1000=0.11915 (USD); Packaging: Cut Tape (CT); Part Status: Active; Voltage - Clamping (Max) @ Ipp: 15V; Power - Peak Pulse: -; Applications: General Purpose; Operating Temperature: -40°C ~ 125°C (TJ); Mounting Type: Surface Mount; Package / Case: SOT-723; Supplier Device Package: PG-TSFP-3; Base Part Number: ESD5V3; ComponentLink1URL: https://www.infineon.com/dgdl/esd5v3u2useries.pdf?folderId=db3a30431441fb5d011488a9e66f0ded&fileId=db3a30431b0626df011b0d3e3ca97dc0; ComponentLink1Description: https://www.infineon.com/dgdl/esd5v3u2useries.pdf?folderId=db3a30431441fb5d011488a9e66f0ded&fileId=db3a30431b0626df011b0d3e3ca97dc0; Supplier 1: Digi-Key; Supplier Part Number 1: ESD5V3U2U03FH6327XTSA1CT-ND; Description 1: TVS DIODE 5.3V 15V TSFP-3; Category: Circuit Protection; .Checked SCH: CHK
footprint PG-TSLP-3-7
pins: 1, 2, 3

## ESP8266 WiFi Module
designator MODULE?, comment WiFi
TXRX ESP8266 MOD WIFI TRACE ANT; Manufacturer 1: Seeed Technology Co., Ltd; Manufacturer Part Number 1: 317060016; Protocol: 802.11b/g/n; Frequency: 2.4GHz ~ 2.48GHz; Data Rate: 72.2Mbps; Power - Output: 15dBm; Sensitivity: -98dBm; Serial Interfaces: UART; Antenna Type: Integrated, Trace; Memory Size: 1MB Flash; Voltage - Supply: 3.3V; Current - Receiving: 62mA; Current - Transmitting: 215mA; RoHS: RoHS Compliant; Stock 1: 326; Pricing 1: 1=7.09 (USD); Packaging: Bulk; Part Status: Active; RF Family/Standard: WiFi; Modulation: -; Utilized IC / Part: ESP8266; Mounting Type: Through Hole; Operating Temperature: -20°C ~ 100°C; Package / Case: Module; ComponentLink1URL: https://media.digikey.com/pdf/Data%20Sheets/Seeed%20Technology/317060016_Web.pdf; ComponentLink1Description: https://media.digikey.com/pdf/Data%20Sheets/Seeed%20Technology/317060016_Web.pdf; Supplier 1: Digi-Key; Supplier Part Number 1: 1597-1145-ND; Description 1: TXRX ESP8266 MOD WIFI TRACE ANT; Category: RF/IF and RFID

## FB742792114
designator FB?, comment 742792114
FERRITE BEAD 50 OHM 1206 1LN; Filter Type: Signal Line; Current Rating (Max): 3A; DC Resistance (DCR) (Max): 25 mOhm; Supplier 1: Digi-Key; Supplier Part Number 1: 732-1621-6-ND; Manufacturer 2: Wurth Electronics Inc.; Manufacturer Part Number 2: 742792114; RoHS: RoHS Compliant; Stock 2: 21934; Pricing 2: 1=0.24, 10=0.238, 50=0.219, 100=0.209, 500=0.2, 1000=0.19 (USD); Packaging: Cut Tape (CT); Part Status: Active; Ratings: -; Operating Temperature: -55°C ~ 125°C; Package / Case: 1206 (3216 Metric); Mounting Type: Surface Mount; Height (Max): 0.051" (1.30mm); Size / Dimension: 0.126" L x 0.063" W (3.20mm x 1.60mm); ComponentLink1URL: http://katalog.we-online.de/pbs/datasheet/742792114.pdf; ComponentLink1Description: http://katalog.we-online.de/pbs/datasheet/742792114.pdf; Supplier 2: Digi-Key; Supplier Part Number 2: 732-1621-1-ND; Description 2: FERRITE BEAD 50 OHM 1206 1LN; Category: Filters
footprint Ferrite bead
pins: 1, 2

## FID_1MMC
designator FID?  (value not drawn)  (no BOM)
Fiducial 40mil Diameter, 120mil Mask; Supplier: Digikey
footprint FID_40X120D

## FSMRA2JH
designator S?
SWITCH TACTILE SPST-NO 0.05A 24V; Manufacturer 1: TE Connectivity ALCOSWITCH Switches; Manufacturer Part Number 1: 1825027-5; .Checked PCB: MM; Switch Function: Off-Mom; Contact Rating @ Voltage: 0.05A @ 24VDC; Actuator Type: Standard; Actuator Length, Right Angle: 3.86mm; Actuator Orientation: Side Actuated; Outline: 7.10mm x 7.00mm; Illumination: Non-Illuminated; Operating Force: 160gf; Actuator Material: Polybutylene Terephthalate (PBT); Switch Travel: 0.25mm; Mechanical Life: 100,000 Cycles; .Checked SCH: MM; RoHS: RoHS Compliant; Stock 1: 37455; Pricing 1: 1=0.17, 10=0.169, 25=0.1628, 50=0.157, 100=0.1482, 250=0.13952, 500=0.1337, 1000=0.10173, 5000=0.08429 (USD); Packaging: Bulk; Part Status: Active; Circuit: SPST-NO; Mounting Type: Through Hole, Right Angle; Actuator Height off PCB, Vertical: -; Termination Style: PC Pin; Illumination Type, Color: -; Illumination Voltage (Nominal): -; Ingress Protection: -; Features: -; Operating Temperature: -35°C ~ 85°C; ComponentLink1URL: http://www.te.com/commerce/DocumentDelivery/DDEController?Action=srchrtrv&DocNm=1825027&DocType=Customer+Drawing&DocLang=English; ComponentLink1Description: http://www.te.com/commerce/DocumentDelivery/DDEController?Action=srchrtrv&DocNm=1825027&DocType=Customer+Drawing&DocLang=English; Supplier 1: Digi-Key; Supplier Part Number 1: 450-1662-ND; Description 1: SWITCH TACTILE SPST-NO 0.05A 24V; Category: Switches
footprint FSMRA2JH
pins: 1, 2, 3 MECH1, 4 MECH2

## FSMRA3JH
designator S?
SWITCH TACTILE SPST-NO 0.05A 24V; Manufacturer 1: TE Connectivity ALCOSWITCH Switches; Manufacturer Part Number 1: 1825027-8; .Checked PCB: MM; Switch Function: Off-Mom; Contact Rating @ Voltage: 0.05A @ 24VDC; Actuator Type: Standard; Actuator Length, Right Angle: 5.85mm; Actuator Orientation: Side Actuated; Outline: 7.10mm x 7.00mm; Illumination: Non-Illuminated; Operating Force: 160gf; Actuator Material: Polyamide (PA), Nylon; Switch Travel: 0.25mm; Mechanical Life: 100,000 Cycles; .Checked SCH: MM; RoHS: RoHS Compliant; Stock 1: 45536; Pricing 1: 1=0.2, 10=0.191, 25=0.1844, 50=0.1778, 100=0.1679, 250=0.158, 500=0.15144, 1000=0.11522, 5000=0.09547 (USD); Packaging: Bulk; Part Status: Active; Circuit: SPST-NO; Mounting Type: Through Hole, Right Angle; Actuator Height off PCB, Vertical: -; Termination Style: PC Pin; Illumination Type, Color: -; Illumination Voltage (Nominal): -; Ingress Protection: -; Features: -; Operating Temperature: -35°C ~ 85°C; ComponentLink1URL: http://www.te.com/commerce/DocumentDelivery/DDEController?Action=srchrtrv&DocNm=1825027&DocType=Customer+Drawing&DocLang=English; ComponentLink1Description: http://www.te.com/commerce/DocumentDelivery/DDEController?Action=srchrtrv&DocNm=1825027&DocType=Customer+Drawing&DocLang=English; Supplier 1: Digi-Key; Supplier Part Number 1: 450-1657-ND; Description 1: SWITCH TACTILE SPST-NO 0.05A 24V; Category: Switches
footprint FSMRA3JH
pins: 1, 2, 3 MECH1, 4 MECH2

## FTS-108-01-F-D
designator J?, comment Part Number: FTS-108-01-F-D
No Description Available; Vendor: Samtec Inc; Built_By: EMA_UL_Team; Manufacturer_Part_Number: FTS-108-01-F-D; Copyright: Copyright (C) 2018 Accelerated Designs. All rights reserved; RefDes: RefDes; Type: DEV; Value: Value
footprint CON16_2x8_TU_FTS
pins: 1, 2, 3, 4, 5, 6, 7, 8, 9, 10, 11, 12, 13, 14, 15, 16

## GT-0903A
designator LS?
AUDIO MAGNETIC XDCR 2-4V TH; Manufacturer 1: Soberton Inc.; Driver Circuitry: Transducer, Externally Driven; Input Type: Zero-Peak Signal; Voltage Range: 2 ~ 4V; Frequency: 2.73kHz; Operating Mode: Single Tone; Sound Pressure Level (SPL): 85dB @ 3V, 10cm; Current - Supply: 80mA; Port Location: Top; Manufacturer Part Number 1: GT-0903A; RoHS: RoHS Compliant; Stock 1: 13944; Pricing 1: 1=0.97, 10=0.774, 25=0.7036, 50=0.658, 100=0.6125, 250=0.56, 500=0.5215, 1000=0.4865, 5000=0.4375 (USD); Packaging: Tray; Part Status: Active; Technology: Magnetic; Duration: -; Operating Temperature: -20°C ~ 60°C; Approvals: -; Ratings: -; Mounting Type: Through Hole; Termination: PC Pins; Size / Dimension: 0.354" Dia (9.00mm); Height - Seated (Max): 0.197" (5.00mm); ComponentLink1URL: http://cirlw3yrzg4afc1x47lv2k18.wpengine.netdna-cdn.com/wp-content/uploads/2016/10/GT-0903A-Rev.A_2016-1.pdf; ComponentLink1Description: http://cirlw3yrzg4afc1x47lv2k18.wpengine.netdna-cdn.com/wp-content/uploads/2016/10/GT-0903A-Rev.A_2016-1.pdf; Supplier 1: Digi-Key; Supplier Part Number 1: 433-1032-ND; Description 1: AUDIO MAGNETIC XDCR 2-4V TH; Category: Audio Products
footprint GT-0903A
pins: 1 +V, 2 -V

## H5007NL
designator T?
MODULE SINGLE GIGABIT LAN 24SOIC; Manufacturer: PULSE ELECTRONICS CORPORATION; .Checked PCB: MM; Transformer Type: Isolation and Data Interface (Encapsulated); Turns Ratio - Primary:Secondary: 1CT : 1CT; Category: Transformers; Family: Pulse; Manufacturer Part Number: H5007NL; Operating Temperature: 0°C ~ 70°C; Price 1k [$]: 3.25125; Supplier: Digikey; Supplier Part Number: 553-1334-ND; .Checked SCH: MM; Supplier 1: Digi-Key; Supplier Part Number 1: 553-1334-ND; RoHS: RoHS Compliant; Stock 1: 15654; Pricing 1: 1=5.74, 10=5.1, 100=4.08, 250=3.69752, 500=3.50626, 1000=3.25125, 5000=3.162 (USD); Inductance: -; E.T.: -; Mounting Type: Surface Mount; Size / Dimension: 17.53mm L x 12.20mm W; Height - Seated (Max): 5.76mm; ComponentLink1URL: http://ww2.pulseeng.com/products/datasheets/HC500.pdf; ComponentLink1Description: http://ww2.pulseeng.com/products/datasheets/HC500.pdf
footprint H5007NL
pins: 1 TCT1, 2 TD1+, 3 TD1-, 4 TCT2, 5 TD2+, 6 TD2-, 7 TCT3, 8 TD3+, 9 TD3-, 10 TCT4, 11 TD4+, 12 TD4-, 13 MX4-, 14 MX4+, 15 MCT4, 16 MX3-, 17 MX3+, 18 MCT3, 19 MX2-, 20 MX2+, 21 MCT2, 22 MX1-, 23 MX1+, 24 MCT1

## HDMI_Connector
designator J?, comment HDMI Connector  (value not drawn)
footprint HDMI_Thru
pins: 1, 2, 3, 4, 5, 6, 7, 8, 9, 10, 11, 12, 13, 14, 15, 16, 17, 18, 19, H1, H2, H3, H4
text: HDMI

## IFX1050GVIO
designator U?
Infineon CAN BUS Tranceiver; Digikey P/N: IFX1050GVIOXUMA1CT-ND
footprint D8
footprint SOIC-8 (3.9 x 6.0 MM BODY, 1.27MM PITCH)
pins: 1 TxD, 2 Gnd, 3 Vcc, 4 RxD, 5 Vcc33, 6 CANL, 7 CANH, 8 INH

## IHLP2525CZER4R7M01
designator L?, comment 4µ7
INDUCTOR POWER 4.7UH 5.5A SMD; Manufacturer: Vishay/Dale; Manufacturer Part Number: IHLP2525CZER4R7M01; .Checked PCB: used; Inductance: 4.7µH; Current - Saturation: 10A; Shielding: Shielded; DC Resistance (DCR): 40 mOhm Max; Tolerance: ±20%; Frequency - Test: 100kHz; .Checked SCH: used; Category: Inductors, Coils, Chokes; Operating Temperature: -55°C ~ 125°C; Package / Case: 0.270" L x 0.255" W x 0.118" H (6.86mm x 6.47mm x 3.00mm); Price 1k [$]: 1.09800; Value: 4µ7; Current: 5.5A; Applications: General Purpose; Supplier Part Number: 541-1010-1-ND; Supplier: Digikey; Supplier 1: Digi-Key; Supplier Part Number 1: 541-1010-1-ND; RoHS: RoHS Compliant; Stock 1: 25684; Pricing 1: 1=2.26, 10=1.83, 100=1.525, 500=1.22, 1000=1.098 (USD); Current - Temperature Rise: 5.5A; Type: -; Q @ Freq: -; Frequency - Self Resonant: -; Material - Core: -; Mounting Type: Surface Mount; Packaging: Cut Tape (CT); ComponentLink1URL: http://www.vishay.com/doc?34104; ComponentLink1Description: http://www.vishay.com/doc?34104
footprint IHLP_255MILx270MIL
pins: 1, 2

## ISL6236AIRZ
designator U?
IC MAIN PWR CTRLR QUAD 32-QFN; Manufacturer: Intersil; .Checked PCB: used; Voltage - Input: 4.5 V ~ 25 V; Number of Outputs: 4; Voltage - Output: Multiple; .Checked SCH: used; Category: Integrated Circuits (ICs); Manufacturer Part Number: ISL6236AIRZ; Operating Temperature: -40°C ~ 100°C; Package / Case: 32-VFQFN Exposed Pad; Price 1k [$]: 3.0840; Value: ISL6236AIRZ; Family: PMIC - Voltage Regulators - Special Purpose; Supplier Part Number: ISL6236AIRZ-ND; Supplier: Digikey; Supplier 1: Digi-Key; Supplier Part Number 1: ISL6236AIRZ-ND; RoHS: RoHS Compliant; Stock 1: 0; Pricing 1: 600=4.28 (USD); Applications: Controller, Notebook Power System; Mounting Type: Surface Mount; Supplier Device Package: 32-QFN Exposed Pad (5x5); Packaging: Tube; ComponentLink1URL: http://www.intersil.com/data/fn/fn6453.pdf; ComponentLink1Description: http://www.intersil.com/data/fn/fn6453.pdf
footprint 32_VFQFN_EXPOSED_PAD
pins: 1 REF, 2 TON, 3 VCC, 4 EN LDO, 5 VREF3, 6 VIN, 7 LDO, 8 LDOREFIN, 9 BYP, 10 OUT1, 11 FB1, 12 ILIM1, 13 POK1, 14 EN1, 15 UGATE1, 16 PHASE1, 17 BOOT1, 18 LGATE1, 19 PVCC, 20 SECFB, 21 GND, 22 PGND, 23 LGATE2, 24 BOOT2, 25 PHASE2, 26 UGATE2, 27 EN2, 28 POK2, 29 SKIP#, 30 OUT2, 31 ILIM2, 32 REFIN2, 33 EP

## LS Q976-NR-1
designator D?
LED RED DIFFUSED 0603 SMD; Manufacturer 1: OSRAM Opto Semiconductors Inc.; Lens Color: White; Millicandela Rating: 104mcd; Lens Style/Size: Rectangle with Flat Top, 1.00mm x 0.80mm; Voltage - Forward (Vf) (Typ): 2V; Current - Test: 20mA; Viewing Angle: 160°; Wavelength - Dominant: 633nm; Wavelength - Peak: 645nm; Published: 8-Jun-2000; LatestRevisionDate: 08-Jul-2005; LatestRevisionNote: Mech Layer 1 removed.; PackageReference: LED-0; Publisher: Altium Limited; PackageDescription: LED; 2 Leads; Manufacturer Part Number 1: LS Q976-NR-1; RoHS: RoHS Compliant; Stock 1: 127302; Pricing 1: 1=0.38, 10=0.274, 25=0.202, 100=0.1444, 250=0.0982, 500=0.08664, 1000=0.06787 (USD); Packaging: Cut Tape (CT); Part Status: Active; Color: Red; Lens Transparency: Diffused; Mounting Type: Surface Mount; Features: -; Package / Case: 0603 (1608 Metric); Supplier Device Package: 0603; Size / Dimension: 1.60mm L x 0.80mm W; Height (Max): 0.80mm; ComponentLink1URL: https://dammedia.osram.info/media/resource/hires/osram-dam-2493499/LS%20Q976.pdf; ComponentLink1Description: https://dammedia.osram.info/media/resource/hires/osram-dam-2493499/LS%20Q976.pdf; Supplier 1: Digi-Key; Supplier Part Number 1: 475-2512-1-ND; Description 1: LED RED DIFFUSED 0603 SMD; Category: Optoelectronics
footprint D0603_Directional (0603 Case Diode)
pins: 1 A, 2 K

## LTR18EZPF1200
designator R?, comment 120R
RES SMD 120 OHM 3/4W 1206 WIDE; Manufacturer 1: Rohm; Manufacturer Part Number 1: LTR18EZPF1200; Featured Product: LTR Series Resistor; EDA / CAD Models: Download from Accelerated Designs; Resistance (Ohms): 120; Tolerance: ±1%; Power (Watts): 0.75W, 3/4W; Temperature Coefficient: ±100ppm/°C; Online Catalog: LTR18 Series; Other Names: RHM120YTR; Stock 1: 5000; Pricing 1: 5000=0.0202, 10000=0.0178, 15000=0.0177, 25000=0.0176 (USD); Standard Package: 5,000; Family: Chip Resistor - Surface Mount; Series: LTR; Packaging: Tape & Reel (TR); Composition: Thick Film; Features: Automotive AEC-Q200, Pulse Withstanding; Operating Temperature: -55°C ~ 155°C; Package / Case: Wide 1206 (3216 Metric), 0612; Supplier Device Package: 1206 (3216 Metric); Size / Dimension: 0.063" L x 0.126" W (1.60mm x 3.20mm); Height: 0.026" (0.65mm); Number of Terminations: 2; ComponentLink1URL: http://www.rohm.com/web/global/datasheet/LTR100JZPD/ltr-e?src-supplier=Digi-Key; ComponentLink1Description: http://www.rohm.com/web/global/datasheet/LTR100JZPD/ltr-e?src-supplier=Digi-Key; Description 1: RES SMD 120 OHM 3/4W 1206 WIDE; Category: Resistors; Supplier 1: Future Electronics; Supplier Part Number 1: LTR18EZPF1200-REEL; .Checked PCB: *; .Checked SCH: *
footprint RES_R1632
pins: 1, 2

## LTV-817S-TA1
designator U?
OPTOISOLATR 5KV TRANSISTOR 4-SMD; Manufacturer 1: Lite-On Inc.; Voltage - Isolation: 5000Vrms; Current Transfer Ratio (Min): 50% @ 5mA; Current Transfer Ratio (Max): 600% @ 5mA; Rise / Fall Time (Typ): 4µs, 3µs; Input Type: DC; Voltage - Output (Max): 35V; Current - Output / Channel: 50mA; Voltage - Forward (Vf) (Typ): 1.2V; Vce Saturation (Max): 200mV; Manufacturer Part Number 1: LTV-817S-TA1; RoHS: RoHS Compliant; Stock 1: 191196; Pricing 1: 1=0.51, 10=0.369, 25=0.3016, 100=0.2411, 250=0.20344, 500=0.1733 (USD); Packaging: Digi-Reel®; Part Status: Active; Turn On / Turn Off Time (Typ): -; Output Type: Transistor; Operating Temperature: -30°C ~ 110°C; Mounting Type: Surface Mount; Package / Case: 4-SMD, Gull Wing; Supplier Device Package: 4-SMD; ComponentLink1URL: http://optoelectronics.liteon.com/upload/download/DS-70-96-0016/LTV-8X7%20series%20201610%20.pdf; ComponentLink1Description: http://optoelectronics.liteon.com/upload/download/DS-70-96-0016/LTV-8X7%20series%20201610%20.pdf; Supplier 1: Digi-Key; Supplier Part Number 1: 160-1893-6-ND; Description 1: OPTOISOLATR 5KV TRANSISTOR 4-SMD; Category: Isolators
footprint 4-SMD-opto
pins: 1 A "Anode", 2 K "Cathode", 3 E "Emitter", 4 C "Collector"

## LW Q38E-Q1OO-3K6L-1
designator D?
LED COOL WHITE DIFFUSED 0603 SMD; Manufacturer 1: OSRAM Opto Semiconductors Inc.; Color: White, Cool; Lens Color: Yellow; Millicandela Rating: 81mcd; Lens Style/Size: Rectangle with Flat Top, 1.10mm x 0.80mm; Voltage - Forward (Vf) (Typ): 2.85V; Current - Test: 5mA; Viewing Angle: 150°, 130°; Wavelength - Dominant: 8200K; Manufacturer Part Number 1: LW Q38E-Q1OO-3K6L-1; RoHS: RoHS Compliant; Stock 1: 215520; Pricing 1: 1=0.49, 10=0.354, 25=0.2888, 100=0.231, 250=0.19492, 500=0.16604, 1000=0.12994 (USD); Packaging: Cut Tape (CT); Part Status: Active; Lens Transparency: Diffused; Mounting Type: Surface Mount; Wavelength - Peak: -; Features: -; Package / Case: 0603 (1608 Metric); Supplier Device Package: 0603; Size / Dimension: 1.60mm L x 0.80mm W; Height (Max): 0.40mm; ComponentLink1URL: https://dammedia.osram.info/media/resource/hires/osram-dam-2493068/LW%20Q38E.pdf; ComponentLink1Description: https://dammedia.osram.info/media/resource/hires/osram-dam-2493068/LW%20Q38E.pdf; Supplier 1: Digi-Key; Supplier Part Number 1: 475-2831-1-ND; Description 1: LED COOL WHITE DIFFUSED 0603 SMD; Category: Optoelectronics
footprint D0603_Directional (0603 Case Diode)
pins: 1 A, 2 K

## M2.5 x 19mm
designator *

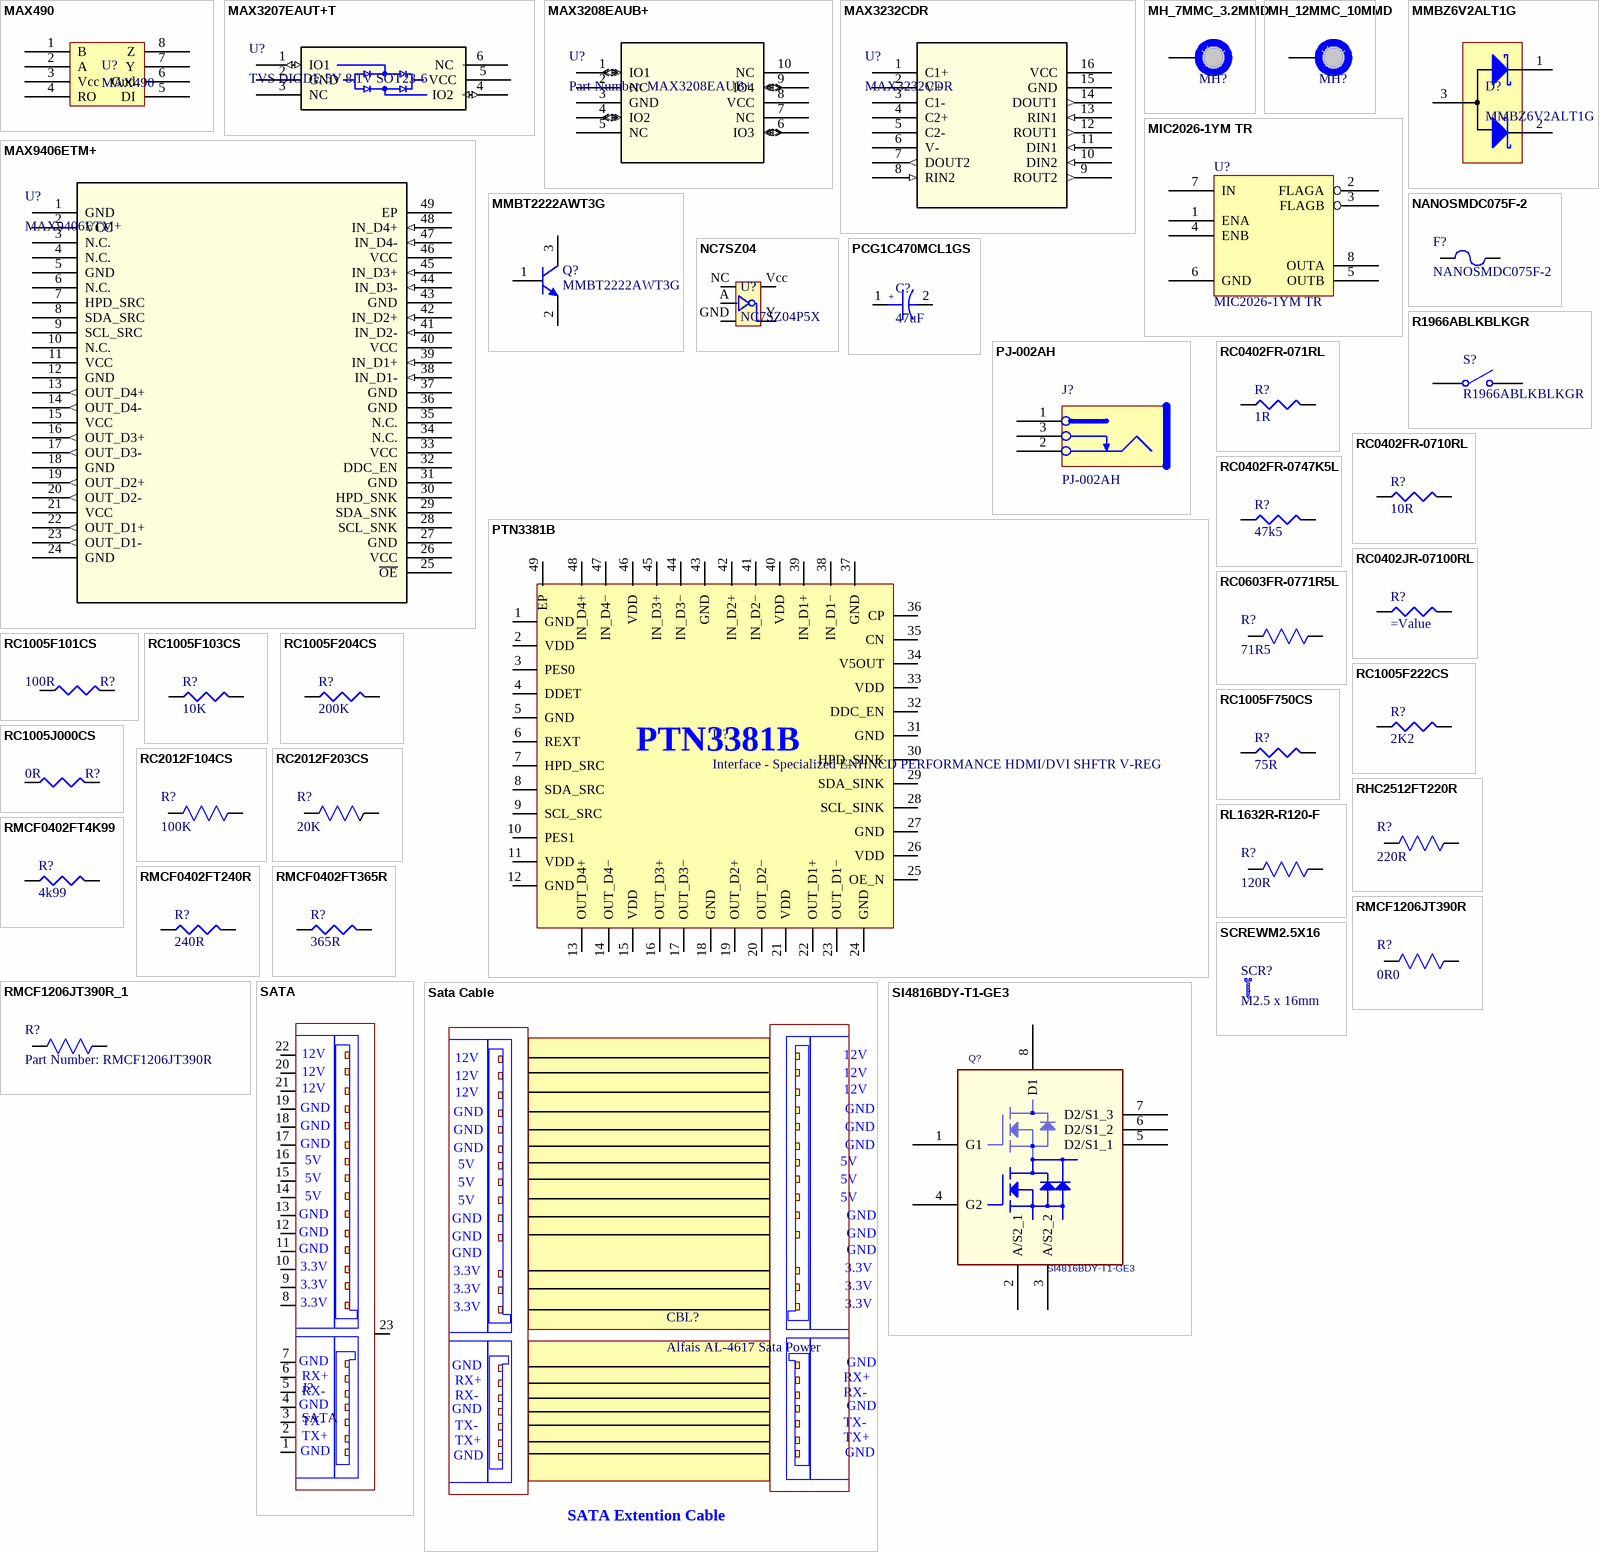
[diagram p2: symbols MAX490 to SI4816BDY-T1-GE3]

## MAX490
designator U?
Maxim RS485 Transceiver; Manufacturer 1: Maxim Integrated; Manufacturer Part Number 1: MAX490ECSA+; Part # Aliases: MAX490E; Data Rate: 2.5 Mb/s; Number of Drivers: 1 Driver; Number of Receivers: 1 Receiver; Operating Supply Voltage: 5 V; Operating Supply Current: 300 uA; Duplex: Full Duplex; Input Voltage: 0.8 V to 2 V; Output Voltage: 3 V; Pd - Power Dissipation: 471 mW; Propagation Delay Time: 40 ns, 60 ns; Unit Weight: 0.019048 oz; Description 1: IC TXRX RS485/RS422 8-SOIC; Stock 1: 37; Pricing 1: 1=2.67, 25=2.59, 100=2.53, 250=2.46, 500=2.4 (EUR); Product Category: RS-422/RS-485 Interface IC; RoHS: True; Function: Transceiver; Maximum Operating Temperature: + 70 C; Minimum Operating Temperature: 0 C; Mounting Style: SMD/SMT; Package / Case: SOIC-8; Packaging: Tube; Brand: Maxim Integrated; Series: MAX490E; ComponentLink1URL: https://datasheet.ciiva.com/26835/max490ecsa-26835125.pdf; ComponentLink1Description: https://datasheet.ciiva.com/26835/max490ecsa-26835125.pdf; ComponentLink2URL: https://datasheet.ciiva.com/4786/max1487e-max491e-101921-4786102.pdf; ComponentLink2Description: https://datasheet.ciiva.com/4786/max1487e-max491e-101921-4786102.pdf; ComponentLink3URL: https://datasheet.ciiva.com/1713/max1487e-max491e-1713224.pdf; ComponentLink3Description: https://datasheet.ciiva.com/1713/max1487e-max491e-1713224.pdf; ComponentLink4URL: https://datasheet.ciiva.com/14152/max481e-83e-1487e-eng-tds-14152666.pdf; ComponentLink4Description: https://datasheet.ciiva.com/14152/max481e-83e-1487e-eng-tds-14152666.pdf; ComponentLink5URL: https://datasheet.ciiva.com/16641/max1487e-max491e-16641645.pdf; ComponentLink5Description: https://datasheet.ciiva.com/16641/max1487e-max491e-16641645.pdf; ComponentLink6URL: https://datasheet.ciiva.com/3028/max1487e-max491e-3028671.pdf; ComponentLink6Description: https://datasheet.ciiva.com/3028/max1487e-max491e-3028671.pdf; Supplier 1: RSComponents; Supplier Part Number 1: 7327955
footprint 21-0041B_8
footprint 21-0041B_8-L
footprint 21-0041B_8-M
pins: 1 B, 2 A, 3 Vcc, 4 RO, 5 DI, 6 Gnd, 7 Y, 8 Z

## MAX3207EAUT+T
designator U?, comment TVS DIODE 5V 8.1V SOT23-6
MAX3207E; Manufacturer_Part_Number: MAX3207EAUT+T; Manufacturer 1: Maxim Integrated; Vendor: Maxim Integrated Products; Built_By: EMA_UL_Team; C: Copyright (C) 2015 Accelerated Designs. All rights reserved; Power Line Protection: Yes; Description 1: TVS DIODE SOT23-6; RefDes: RefDes; Type: DEV; Value: Value; Manufacturer Part Number 1: MAX3207EAUT+T; RoHS: RoHS Compliant; Stock 1: 8902; Pricing 1: 1=1.3, 10=1.224, 25=0.9792, 50=0.9302, 100=0.8568, 250=0.81276, 500=0.78336 (USD); Packaging: Cut Tape (CT); Part Status: Active; Voltage - Reverse Standoff (Typ): -; Voltage - Breakdown (Min): -; Voltage - Clamping (Max) @ Ipp: -; Current - Peak Pulse (10/1000µs): -; Power - Peak Pulse: -; Applications: USB OTG; Capacitance @ Frequency: -; Operating Temperature: -40°C ~ 125°C (TA); Mounting Type: Surface Mount; Package / Case: SOT-23-6; Supplier Device Package: SOT-23-6; Base Part Number: MAX3207E; ComponentLink1URL: https://datasheets.maximintegrated.com/en/ds/MAX3205E-MAX3208E.pdf; ComponentLink1Description: https://datasheets.maximintegrated.com/en/ds/MAX3205E-MAX3208E.pdf; Supplier 1: Digi-Key; Supplier Part Number 1: MAX3207EAUT+TCT-ND; Category: Circuit Protection
footprint 21-0058I
pins: 1 IO1 (io), 2 GND (power), 3 NC, 4 IO2 (io), 5 VCC (power), 6 NC

## MAX3208EAUB+
designator U?, comment Part Number: MAX3208EAUB+
No Description Available; Vendor: Maxim Integrated Products; Built_By: EMA_UL_Team; Manufacturer_Part_Number: MAX3208EAUB+; Copyright: Copyright (C) 2018 Accelerated Designs. All rights reserved; RefDes: RefDes; Type: DEV; Value: Value
footprint 21-0061L-M
pins: 1 IO1 (io), 2 NC, 3 GND (power), 4 IO2 (io), 5 NC, 6 IO3 (io), 7 NC, 8 VCC (power), 9 IO4 (io), 10 NC